# Altium schematic symbol library SCH - DIGITAL ISOLATOR - CHIPANAlOG CA-IS3020S.SCHLIB: 1 symbol
Pins are listed as number, name and electrical type; pins without a type are passive.

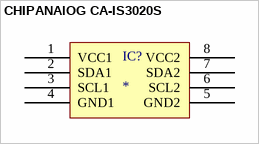
[diagram p0: symbol CHIPANAlOG CA-IS3020S]

## CHIPANAlOG CA-IS3020S
designator IC?
pins: 1 VCC1, 2 SDA1, 3 SCL1, 4 GND1, 5 GND2, 6 SCL2, 7 SDA2, 8 VCC2